# Altium schematic symbol library Triac_1T12T23G.SchLib: 1 symbol
Pins are listed as number, name and electrical type; pins without a type are passive.

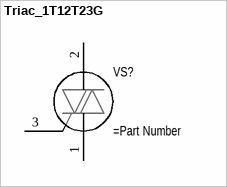
[diagram p0: symbol Triac_1T12T23G]

## Triac_1T12T23G
designator VS?
pins: 1 T1 "cathode", 2 T2 "anode", 3 G "gate"